# Altium schematic symbol library Term,Header,2x8 Pin,2.54mm,Top,Thru.Schlib: 1 symbol
Pins are listed as number, name and electrical type; pins without a type are passive.

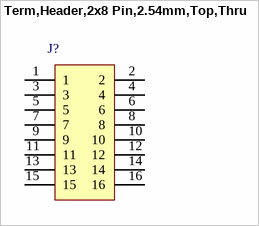
[diagram p0: symbol Term,Header,2x8 Pin,2.54mm,Top,Thru]

## Term,Header,2x8 Pin,2.54mm,Top,Thru
designator J?
pins: 1, 2, 3, 4, 5, 6, 7, 8, 9, 10, 11, 12, 13, 14, 15, 16